# EAGLE library part TMP006 (library capstone)
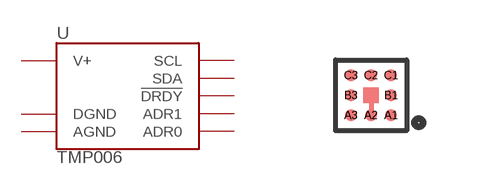
[diagram p0: symbol with the pads of BGA8DS; footprint BGA8DS]

Designator prefix -

## TMP006  [BGA8DS]
A1  DGND
A2  AGND
A3  V+
B1  ADR1
B3  SCL
C1  ADR0
C2  !DRDY
C3  SDA

## Footprint BGA8DS (pad centres in mm)
smd 0.305 x 0.305: A1 0.5,-0.5; A2 0,-0.5; A3 -0.5,-0.5; B1 0.5,0; B3 -0.5,0; C1 0.5,0.5; C2 0,0.5; C3 -0.5,0.5